# Altium footprint library BHK_PCB_Devices.PcbLib: 2 footprints
Each footprint in its own frame and in the unit in brackets; x right, y up, seen from the top. Pads: shape width x height; smd on the part's side, far side on the other; paste and mask are expansions set on the pad; w line width, h text height; cw(c..) or ccw(c..) is an arc to the next point about the centre after c.
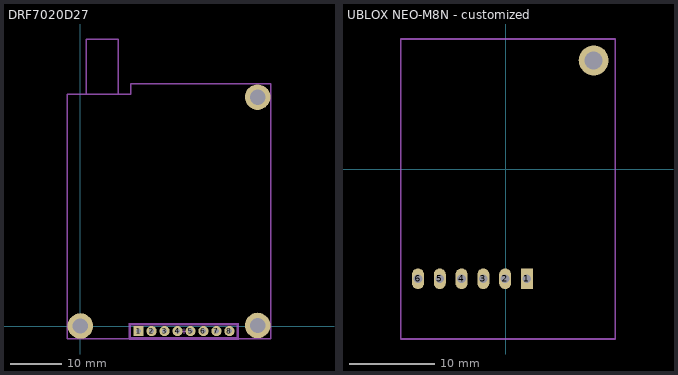
[diagram p0: the footprints below, top view; thin cyan lines are the x and y axes]

## DRF7020D27 [mm]
pads (11):
  rect 2x2 hole 1.02: 1(11.42,-0.975)
  round 2 hole 1.02: 2(13.96,-0.975) 3(16.5,-0.975) 4(19.04,-0.975) 5(21.58,-0.975) 6(24.12,-0.975) 7(26.66,-0.975) 8(29.2,-0.975)
  round 5 hole 3: ""(0.02,0.025) ""(34.72,0.125) ""(34.72,44.825)
Mechanical 13:
  lines w0.1: 9.9,-2.225 9.9,0.275 30.72,0.275 30.72,-2.225 9.9,-2.225
Mechanical 15:
  lines w0.05: 19.81,-0.975 20.81,-0.975 ; 20.31,-1.475 20.31,-0.475 ; 9.575,-2.525 9.575,0.575 31.045,0.575 31.045,-2.525 9.575,-2.525
  lines w0.2: 9.775,-2.325 30.845,-2.325 30.845,0.375 9.775,0.375 9.775,-2.325
  lines w0.254: -2.58,45.425 -2.58,-2.475 37.32,-2.475 37.32,47.425 9.92,47.425 ; -2.58,45.425 9.92,45.425 ; -2.58,45.425 7.92,45.425 9.92,45.425 ; 9.92,45.425 9.92,47.425 ; 9.92,45.425 9.92,47.425 ; 1.22,45.425 7.42,45.425 7.42,56.2 1.22,56.2 1.22,45.425
3D body "61300811821.stp": height 8.55, standoff -3.06, extent 9.9,-2.225 30.72,0.275
3D body: height 12.54, standoff 7.46, extent 1.8,45.25 6.88,55.75
3D body: height 10, standoff 8, extent -2.505,-2.525 37.495,47.425

## UBLOX NEO-M8N - customized [mm]
pads (7):
  rect 1.4x2.4 hole 1.02: 1(2.45,-12.762)
  oval 1.4x2.4 hole 1.02: 2(-0.09,-12.762) 3(-2.63,-12.762) 4(-5.17,-12.762) 5(-7.71,-12.762) 6(-10.25,-12.762)
  round 3.5 hole 2.1: ""(10.25,12.712)
Mechanical 1:
  lines w0.2: -12.25,-19.788 -12.25,15.212 12.75,15.212 12.75,-19.788 -12.25,-19.788
3D body: height 12.6, standoff 11, extent -12.25,-19.763 12.75,15.212
3D body "Header6.STEP": height 13.54, standoff 2.62, extent -11.07,-14.163 4.17,-11.623
3D body "PPTC061LFBNRC--3DModel-STEP-56544.STEP": height 8.51, standoff -3.2, extent -11.625,-14.163 4.123,-11.623
3D body "SMA-J-P-H-RA-TH1--3DModel-STEP-56544.STEP": height 22.36, standoff 8.56, extent 5.2,-27.25 12.2,-12.15